# Altium integrated library Analog Devices Data Converters Digital-to-Analog Converters.IntLib: 2231 symbols (part 109 of 181)
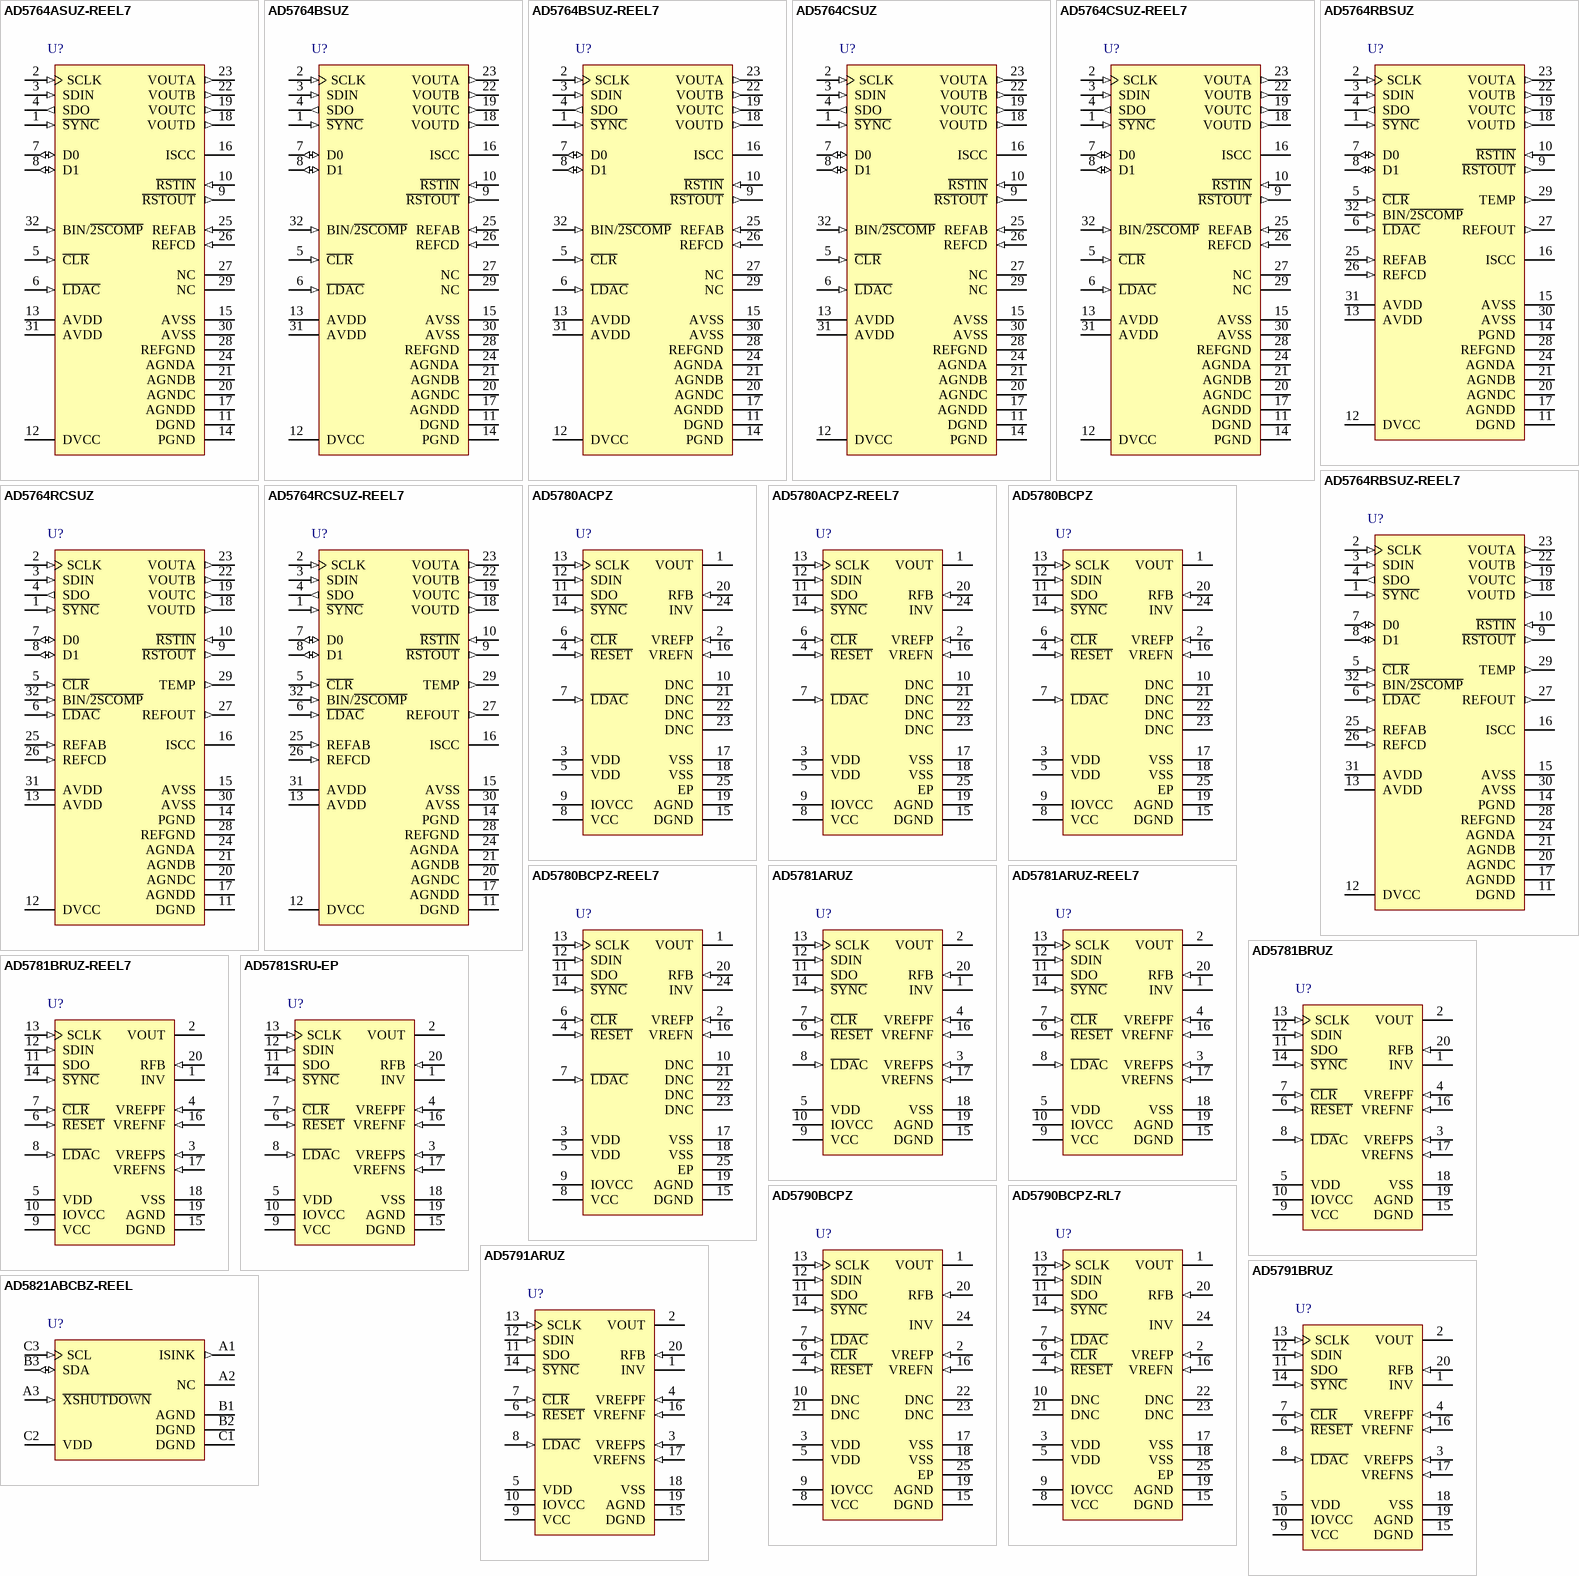
[diagram p222: symbols AD5764ASUZ-REEL7 to AD5821ABCBZ-REEL]

## AD5764ASUZ-REEL7
designator U?
Quad 16-Bit High Accuracy Bipolar Voltage Output Digital-to-Analog Converter with Serial Interface, -40 to +85 degC, SU-32-2, Pb-Free, Reel; Generic Part Number: AD5764; Manufacturer: Analog Devices; PartNumber: AD5764ASUZ-REEL7; # DAC Outputs: 4; Max V+: 16.5V; Op Pwr Diss: 381mW; Resolution (Bits): 16; Settling Time: 8µs; Single Supply: No; DatasheetVersion: Rev.F; PackageVersion: 2004; PackageReference: SU-32-2; PackageDescription: 32-Lead Thin Plastic Quad Flat Package [TQFP]; Supplier 1: Digi-Key; Supplier Part Number 1: AD5764ASUZ-REEL7-ND; Supplier 2: Mouser; Supplier Part Number 2: 584-AD5764ASUZ-R7; Packing: Reel; RoHS: Y; Mounting Technology: Surface Mount; Code_JEDEC: MS-026-ABA; ComponentLink1Description: Manufacturer URL; ComponentLink1URL: http://www.analog.com/en/index.html; ComponentLink2Description: Datasheet; ComponentLink2URL: http://www.analog.com/static/imported-files/data_sheets/AD5764.pdf; ComponentLink3Description: Package Specification; ComponentLink3URL: http://www.analog.com/static/imported-files/packages/6298531260360306615SU_32_2.pdf; ComponentLink4Description: Product URL; ComponentLink4URL: http://www.analog.com/en/digital-to-analog-converters/da-converters/ad5764/products/product.html; ComponentLink5Description: Reference Design URL; ComponentLink5URL: http://www.analog.com/en/digital-to-analog-converters/da-converters/ad5764/products/product.html#prod_cross_sell
footprint SU-32-2_N (Thin QFP, 32-Leads, Body 7x7mm, Pitch 0.8mm, IPC Medium Density)
footprint SU-32-2_L (Thin QFP, 32-Leads, Body 7x7mm, Pitch 0.8mm, IPC High Density)
footprint SU-32-2_M (Thin QFP, 32-Leads, Body 7x7mm, Pitch 0.8mm, IPC Low Density)
pins: 1 ~{SYNC} (in) "Active Low Input. This is the frame synchronization signal for the serial interface. While S\Y\N\C\ is low, data is transferred in on the falling edge of SCLK.", 2 SCLK (in) "Serial Clock Input. Data is clocked into the input shift register on the falling edge of SCLK. This operates at clock speeds up to 30 MHz.", 3 SDIN (in) "Serial Data Input. Data must be valid on the falling edge of SCLK", 4 SDO (out) "Serial Data Output. Used to clock data from the serial register in daisy-chain or readback mode.", 5 ~{CLR} (in) "Negative Edge Triggered Input. Asserting this pin sets the data register to 0x0000. There is an internal pull-up device on this logic input. Therefore, this pin can be left floating and defaults to a Logic 1 condition.", 6 ~{LDAC} (in) "Load DAC. Logic input. This is used to update the data register and consequently the analog outputs. When tied permanently low, the addressed data register is updated on the rising edge of S\Y\N\C\. If L\D\A\C\ is held high (See Datasheet)", 7 D0 (io) "Digital I/O Port. The user can set up these pins as inputs or outputs that are configurable and readable over the serial interface. When configured as inputs, these pins have weak internal pull-ups to DVCC. When programmed (See Datasheet)", 8 D1 (io) "Digital I/O Port. The user can set up these pins as inputs or outputs that are configurable and readable over the serial interface. When configured as inputs, these pins have weak internal pull-ups to DVCC. When programmed (See Datasheet)", 9 ~{RSTOUT} (out) "Reset Logic Output. This is the output from the on-chip voltage monitor used in the reset circuit. If desired, it can be used to control other system components.", 10 ~{RSTIN} (in) "Reset Logic Input. This input allows external access to the internal reset logic. Applying a Logic 0 to this input clamps the DAC outputs to 0 V. In normal operation, R\S\T\I\N\ should be tied to Logic 1. Register values (See Datasheet)", 11 DGND (power) "Digital Ground.", 12 DVCC (power) "Digital Supply. Voltage ranges from 2.7 V to 5.25 V.", 13 AVDD (power) "Positive Analog Supply. Voltage ranges from 11.4 V to 16.5 V.", 14 PGND (power) "Ground Reference Point for Analog Circuitry.", 15 AVSS (power) "Negative Analog Supply. Voltage ranges from -11.4 V to -16.5 V.", 16 ISCC "Resistor Connection for Pin Programmable Short-Circuit Current. This pin is used in association with an optional external resistor to AGND to program the short-circuit current of the output amplifiers. Refer to the Design (See Datasheet)", 17 AGNDD (power) "Ground Reference Pin for DAC D Output Amplifier.", 18 VOUTD (out) "Analog Output Voltage of DAC D. This pin is a buffered output with a nominal full-scale output range of + /- 10 V. The output amplifier is capable of directly driving a 10 kohm, 200 pF load.", 19 VOUTC (out) "Analog Output Voltage of DAC C. This pin is a buffered output with a nominal full-scale output range of + / -10 V. The output amplifier is capable of directly driving a 10 kohm, 200 pF load.", 20 AGNDC (power) "Ground Reference Pin for DAC C Output Amplifier.", 21 AGNDB (power) "Ground Reference Pin for DAC B Output Amplifier.", 22 VOUTB (out) "Analog Output Voltage of DAC B. Buffered output with a nominal full-scale output range of +/- 10 V. The output amplifier is capable of directly driving a 10 kohm, 200pF load.", 23 VOUTA (out) "Analog Output Voltage of DAC A. Buffered output with a nominal full-scale output range of +/- 10 V. The output amplifier is capable of directly driving a 10 kohm, 200pF load.", 24 AGNDA (power) "Ground Reference Pin for DAC A Output Amplifier.", 25 REFAB (in) "External Reference Voltage Input for Channel A and Channel B. Reference input range is 1 V to 7 V; programs the full-scale output voltage. VREFIN = 5 V for specified performance.", 26 REFCD (in) "External Reference Voltage Input for Channel C and Channel D. Reference input range is 1 V to 7 V; programs the full-scale output voltage. VREFIN= 5 V for specified performance.", 27 NC "No Connect", 28 REFGND (power) "Reference Ground Return for the Reference Generator and Buffers.", 29 NC "No Connect.", 30 AVSS (power) "Negative Analog Supply. Voltage ranges from -11.4 V to -16.5 V.", 31 AVDD (power) "Positive Analog Supply. Voltage ranges from 11.4 V to 16.5 V.", 32 BIN/~{2SCOMP} (in) "Determines the DAC Coding. This pin should be hardwired to either DVCC or DGND. When hardwired to DVCC, input coding is offset binary. When hardwired to DGND, input coding is tows complement(see table 7 and table 8)."

## AD5764BSUZ
designator U?
Quad 16-Bit High Accuracy Bipolar Voltage Output Digital-to-Analog Converter with Serial Interface, -40 to +85 degC, SU-32-2, Pb-Free, Tray; Generic Part Number: AD5764; Manufacturer: Analog Devices; PartNumber: AD5764BSUZ; # DAC Outputs: 4; Max V+: 16.5V; Op Pwr Diss: 381mW; Resolution (Bits): 16; Settling Time: 8µs; Single Supply: No; DatasheetVersion: Rev.F; PackageVersion: 2004; PackageReference: SU-32-2; PackageDescription: 32-Lead Thin Plastic Quad Flat Package [TQFP]; Supplier 1: Digi-Key; Supplier Part Number 1: AD5764BSUZ-ND; Supplier 2: Newark; Supplier Part Number 2: 28M4012; Supplier 3: Mouser; Supplier Part Number 3: 584-AD5764BSUZ; Packing: Tray; RoHS: Y; Mounting Technology: Surface Mount; Code_JEDEC: MS-026-ABA; ComponentLink1Description: Manufacturer URL; ComponentLink1URL: http://www.analog.com/en/index.html; ComponentLink2Description: Datasheet; ComponentLink2URL: http://www.analog.com/static/imported-files/data_sheets/AD5764.pdf; ComponentLink3Description: Package Specification; ComponentLink3URL: http://www.analog.com/static/imported-files/packages/6298531260360306615SU_32_2.pdf; ComponentLink4Description: Product URL; ComponentLink4URL: http://www.analog.com/en/digital-to-analog-converters/da-converters/ad5764/products/product.html; ComponentLink5Description: Reference Design URL; ComponentLink5URL: http://www.analog.com/en/digital-to-analog-converters/da-converters/ad5764/products/product.html#prod_cross_sell
footprint SU-32-2_N (Thin QFP, 32-Leads, Body 7x7mm, Pitch 0.8mm, IPC Medium Density)
footprint SU-32-2_L (Thin QFP, 32-Leads, Body 7x7mm, Pitch 0.8mm, IPC High Density)
footprint SU-32-2_M (Thin QFP, 32-Leads, Body 7x7mm, Pitch 0.8mm, IPC Low Density)
pins: 1 ~{SYNC} (in) "Active Low Input. This is the frame synchronization signal for the serial interface. While S\Y\N\C\ is low, data is transferred in on the falling edge of SCLK.", 2 SCLK (in) "Serial Clock Input. Data is clocked into the input shift register on the falling edge of SCLK. This operates at clock speeds up to 30 MHz.", 3 SDIN (in) "Serial Data Input. Data must be valid on the falling edge of SCLK", 4 SDO (out) "Serial Data Output. Used to clock data from the serial register in daisy-chain or readback mode.", 5 ~{CLR} (in) "Negative Edge Triggered Input. Asserting this pin sets the data register to 0x0000. There is an internal pull-up device on this logic input. Therefore, this pin can be left floating and defaults to a Logic 1 condition.", 6 ~{LDAC} (in) "Load DAC. Logic input. This is used to update the data register and consequently the analog outputs. When tied permanently low, the addressed data register is updated on the rising edge of S\Y\N\C\. If L\D\A\C\ is held high (See Datasheet)", 7 D0 (io) "Digital I/O Port. The user can set up these pins as inputs or outputs that are configurable and readable over the serial interface. When configured as inputs, these pins have weak internal pull-ups to DVCC. When programmed (See Datasheet)", 8 D1 (io) "Digital I/O Port. The user can set up these pins as inputs or outputs that are configurable and readable over the serial interface. When configured as inputs, these pins have weak internal pull-ups to DVCC. When programmed (See Datasheet)", 9 ~{RSTOUT} (out) "Reset Logic Output. This is the output from the on-chip voltage monitor used in the reset circuit. If desired, it can be used to control other system components.", 10 ~{RSTIN} (in) "Reset Logic Input. This input allows external access to the internal reset logic. Applying a Logic 0 to this input clamps the DAC outputs to 0 V. In normal operation, R\S\T\I\N\ should be tied to Logic 1. Register values (See Datasheet)", 11 DGND (power) "Digital Ground.", 12 DVCC (power) "Digital Supply. Voltage ranges from 2.7 V to 5.25 V.", 13 AVDD (power) "Positive Analog Supply. Voltage ranges from 11.4 V to 16.5 V.", 14 PGND (power) "Ground Reference Point for Analog Circuitry.", 15 AVSS (power) "Negative Analog Supply. Voltage ranges from -11.4 V to -16.5 V.", 16 ISCC "Resistor Connection for Pin Programmable Short-Circuit Current. This pin is used in association with an optional external resistor to AGND to program the short-circuit current of the output amplifiers. Refer to the Design (See Datasheet)", 17 AGNDD (power) "Ground Reference Pin for DAC D Output Amplifier.", 18 VOUTD (out) "Analog Output Voltage of DAC D. This pin is a buffered output with a nominal full-scale output range of + /- 10 V. The output amplifier is capable of directly driving a 10 kohm, 200 pF load.", 19 VOUTC (out) "Analog Output Voltage of DAC C. This pin is a buffered output with a nominal full-scale output range of + / -10 V. The output amplifier is capable of directly driving a 10 kohm, 200 pF load.", 20 AGNDC (power) "Ground Reference Pin for DAC C Output Amplifier.", 21 AGNDB (power) "Ground Reference Pin for DAC B Output Amplifier.", 22 VOUTB (out) "Analog Output Voltage of DAC B. Buffered output with a nominal full-scale output range of +/- 10 V. The output amplifier is capable of directly driving a 10 kohm, 200pF load.", 23 VOUTA (out) "Analog Output Voltage of DAC A. Buffered output with a nominal full-scale output range of +/- 10 V. The output amplifier is capable of directly driving a 10 kohm, 200pF load.", 24 AGNDA (power) "Ground Reference Pin for DAC A Output Amplifier.", 25 REFAB (in) "External Reference Voltage Input for Channel A and Channel B. Reference input range is 1 V to 7 V; programs the full-scale output voltage. VREFIN = 5 V for specified performance.", 26 REFCD (in) "External Reference Voltage Input for Channel C and Channel D. Reference input range is 1 V to 7 V; programs the full-scale output voltage. VREFIN= 5 V for specified performance.", 27 NC "No Connect", 28 REFGND (power) "Reference Ground Return for the Reference Generator and Buffers.", 29 NC "No Connect.", 30 AVSS (power) "Negative Analog Supply. Voltage ranges from -11.4 V to -16.5 V.", 31 AVDD (power) "Positive Analog Supply. Voltage ranges from 11.4 V to 16.5 V.", 32 BIN/~{2SCOMP} (in) "Determines the DAC Coding. This pin should be hardwired to either DVCC or DGND. When hardwired to DVCC, input coding is offset binary. When hardwired to DGND, input coding is tows complement(see table 7 and table 8)."

## AD5764BSUZ-REEL7
designator U?
Quad 16-Bit High Accuracy Bipolar Voltage Output Digital-to-Analog Converter with Serial Interface, -40 to +85 degC, SU-32-2, Pb-Free, Reel; Generic Part Number: AD5764; Manufacturer: Analog Devices; PartNumber: AD5764BSUZ-REEL7; # DAC Outputs: 4; Max V+: 16.5V; Op Pwr Diss: 381mW; Resolution (Bits): 16; Settling Time: 8µs; Single Supply: No; DatasheetVersion: Rev.F; PackageVersion: 2004; PackageReference: SU-32-2; PackageDescription: 32-Lead Thin Plastic Quad Flat Package [TQFP]; Supplier 1: Digi-Key; Supplier Part Number 1: AD5764BSUZ-REEL7-ND; Supplier 2: Mouser; Supplier Part Number 2: 584-AD5764BSUZ-R7; Packing: Reel; RoHS: Y; Mounting Technology: Surface Mount; Code_JEDEC: MS-026-ABA; ComponentLink1Description: Manufacturer URL; ComponentLink1URL: http://www.analog.com/en/index.html; ComponentLink2Description: Datasheet; ComponentLink2URL: http://www.analog.com/static/imported-files/data_sheets/AD5764.pdf; ComponentLink3Description: Package Specification; ComponentLink3URL: http://www.analog.com/static/imported-files/packages/6298531260360306615SU_32_2.pdf; ComponentLink4Description: Product URL; ComponentLink4URL: http://www.analog.com/en/digital-to-analog-converters/da-converters/ad5764/products/product.html; ComponentLink5Description: Reference Design URL; ComponentLink5URL: http://www.analog.com/en/digital-to-analog-converters/da-converters/ad5764/products/product.html#prod_cross_sell
footprint SU-32-2_N (Thin QFP, 32-Leads, Body 7x7mm, Pitch 0.8mm, IPC Medium Density)
footprint SU-32-2_L (Thin QFP, 32-Leads, Body 7x7mm, Pitch 0.8mm, IPC High Density)
footprint SU-32-2_M (Thin QFP, 32-Leads, Body 7x7mm, Pitch 0.8mm, IPC Low Density)
pins: 1 ~{SYNC} (in) "Active Low Input. This is the frame synchronization signal for the serial interface. While S\Y\N\C\ is low, data is transferred in on the falling edge of SCLK.", 2 SCLK (in) "Serial Clock Input. Data is clocked into the input shift register on the falling edge of SCLK. This operates at clock speeds up to 30 MHz.", 3 SDIN (in) "Serial Data Input. Data must be valid on the falling edge of SCLK", 4 SDO (out) "Serial Data Output. Used to clock data from the serial register in daisy-chain or readback mode.", 5 ~{CLR} (in) "Negative Edge Triggered Input. Asserting this pin sets the data register to 0x0000. There is an internal pull-up device on this logic input. Therefore, this pin can be left floating and defaults to a Logic 1 condition.", 6 ~{LDAC} (in) "Load DAC. Logic input. This is used to update the data register and consequently the analog outputs. When tied permanently low, the addressed data register is updated on the rising edge of S\Y\N\C\. If L\D\A\C\ is held high (See Datasheet)", 7 D0 (io) "Digital I/O Port. The user can set up these pins as inputs or outputs that are configurable and readable over the serial interface. When configured as inputs, these pins have weak internal pull-ups to DVCC. When programmed (See Datasheet)", 8 D1 (io) "Digital I/O Port. The user can set up these pins as inputs or outputs that are configurable and readable over the serial interface. When configured as inputs, these pins have weak internal pull-ups to DVCC. When programmed (See Datasheet)", 9 ~{RSTOUT} (out) "Reset Logic Output. This is the output from the on-chip voltage monitor used in the reset circuit. If desired, it can be used to control other system components.", 10 ~{RSTIN} (in) "Reset Logic Input. This input allows external access to the internal reset logic. Applying a Logic 0 to this input clamps the DAC outputs to 0 V. In normal operation, R\S\T\I\N\ should be tied to Logic 1. Register values (See Datasheet)", 11 DGND (power) "Digital Ground.", 12 DVCC (power) "Digital Supply. Voltage ranges from 2.7 V to 5.25 V.", 13 AVDD (power) "Positive Analog Supply. Voltage ranges from 11.4 V to 16.5 V.", 14 PGND (power) "Ground Reference Point for Analog Circuitry.", 15 AVSS (power) "Negative Analog Supply. Voltage ranges from -11.4 V to -16.5 V.", 16 ISCC "Resistor Connection for Pin Programmable Short-Circuit Current. This pin is used in association with an optional external resistor to AGND to program the short-circuit current of the output amplifiers. Refer to the Design (See Datasheet)", 17 AGNDD (power) "Ground Reference Pin for DAC D Output Amplifier.", 18 VOUTD (out) "Analog Output Voltage of DAC D. This pin is a buffered output with a nominal full-scale output range of + /- 10 V. The output amplifier is capable of directly driving a 10 kohm, 200 pF load.", 19 VOUTC (out) "Analog Output Voltage of DAC C. This pin is a buffered output with a nominal full-scale output range of + / -10 V. The output amplifier is capable of directly driving a 10 kohm, 200 pF load.", 20 AGNDC (power) "Ground Reference Pin for DAC C Output Amplifier.", 21 AGNDB (power) "Ground Reference Pin for DAC B Output Amplifier.", 22 VOUTB (out) "Analog Output Voltage of DAC B. Buffered output with a nominal full-scale output range of +/- 10 V. The output amplifier is capable of directly driving a 10 kohm, 200pF load.", 23 VOUTA (out) "Analog Output Voltage of DAC A. Buffered output with a nominal full-scale output range of +/- 10 V. The output amplifier is capable of directly driving a 10 kohm, 200pF load.", 24 AGNDA (power) "Ground Reference Pin for DAC A Output Amplifier.", 25 REFAB (in) "External Reference Voltage Input for Channel A and Channel B. Reference input range is 1 V to 7 V; programs the full-scale output voltage. VREFIN = 5 V for specified performance.", 26 REFCD (in) "External Reference Voltage Input for Channel C and Channel D. Reference input range is 1 V to 7 V; programs the full-scale output voltage. VREFIN= 5 V for specified performance.", 27 NC "No Connect", 28 REFGND (power) "Reference Ground Return for the Reference Generator and Buffers.", 29 NC "No Connect.", 30 AVSS (power) "Negative Analog Supply. Voltage ranges from -11.4 V to -16.5 V.", 31 AVDD (power) "Positive Analog Supply. Voltage ranges from 11.4 V to 16.5 V.", 32 BIN/~{2SCOMP} (in) "Determines the DAC Coding. This pin should be hardwired to either DVCC or DGND. When hardwired to DVCC, input coding is offset binary. When hardwired to DGND, input coding is tows complement(see table 7 and table 8)."

## AD5764CSUZ
designator U?
Quad 16-Bit High Accuracy Bipolar Voltage Output Digital-to-Analog Converter with Serial Interface, -40 to +85 degC, SU-32-2, Pb-Free, Tray; Generic Part Number: AD5764; Manufacturer: Analog Devices; PartNumber: AD5764CSUZ; # DAC Outputs: 4; Max V+: 16.5V; Op Pwr Diss: 381mW; Resolution (Bits): 16; Settling Time: 8µs; Single Supply: No; DatasheetVersion: Rev.F; PackageVersion: 2004; PackageReference: SU-32-2; PackageDescription: 32-Lead Thin Plastic Quad Flat Package [TQFP]; Supplier 1: Digi-Key; Supplier Part Number 1: AD5764CSUZ-ND; Supplier 2: Farnell; Supplier Part Number 2: 1274253; Supplier 3: Newark; Supplier Part Number 3: 19M1187; Supplier 4: Mouser; Supplier Part Number 4: 584-AD5764CSUZ; Packing: Tray; RoHS: Y; Mounting Technology: Surface Mount; Code_JEDEC: MS-026-ABA; ComponentLink1Description: Manufacturer URL; ComponentLink1URL: http://www.analog.com/en/index.html; ComponentLink2Description: Datasheet; ComponentLink2URL: http://www.analog.com/static/imported-files/data_sheets/AD5764.pdf; ComponentLink3Description: Package Specification; ComponentLink3URL: http://www.analog.com/static/imported-files/packages/6298531260360306615SU_32_2.pdf; ComponentLink4Description: Product URL; ComponentLink4URL: http://www.analog.com/en/digital-to-analog-converters/da-converters/ad5764/products/product.html; ComponentLink5Description: Reference Design URL; ComponentLink5URL: http://www.analog.com/en/digital-to-analog-converters/da-converters/ad5764/products/product.html#prod_cross_sell
footprint SU-32-2_N (Thin QFP, 32-Leads, Body 7x7mm, Pitch 0.8mm, IPC Medium Density)
footprint SU-32-2_L (Thin QFP, 32-Leads, Body 7x7mm, Pitch 0.8mm, IPC High Density)
footprint SU-32-2_M (Thin QFP, 32-Leads, Body 7x7mm, Pitch 0.8mm, IPC Low Density)
pins: 1 ~{SYNC} (in) "Active Low Input. This is the frame synchronization signal for the serial interface. While S\Y\N\C\ is low, data is transferred in on the falling edge of SCLK.", 2 SCLK (in) "Serial Clock Input. Data is clocked into the input shift register on the falling edge of SCLK. This operates at clock speeds up to 30 MHz.", 3 SDIN (in) "Serial Data Input. Data must be valid on the falling edge of SCLK", 4 SDO (out) "Serial Data Output. Used to clock data from the serial register in daisy-chain or readback mode.", 5 ~{CLR} (in) "Negative Edge Triggered Input. Asserting this pin sets the data register to 0x0000. There is an internal pull-up device on this logic input. Therefore, this pin can be left floating and defaults to a Logic 1 condition.", 6 ~{LDAC} (in) "Load DAC. Logic input. This is used to update the data register and consequently the analog outputs. When tied permanently low, the addressed data register is updated on the rising edge of S\Y\N\C\. If L\D\A\C\ is held high (See Datasheet)", 7 D0 (io) "Digital I/O Port. The user can set up these pins as inputs or outputs that are configurable and readable over the serial interface. When configured as inputs, these pins have weak internal pull-ups to DVCC. When programmed (See Datasheet)", 8 D1 (io) "Digital I/O Port. The user can set up these pins as inputs or outputs that are configurable and readable over the serial interface. When configured as inputs, these pins have weak internal pull-ups to DVCC. When programmed (See Datasheet)", 9 ~{RSTOUT} (out) "Reset Logic Output. This is the output from the on-chip voltage monitor used in the reset circuit. If desired, it can be used to control other system components.", 10 ~{RSTIN} (in) "Reset Logic Input. This input allows external access to the internal reset logic. Applying a Logic 0 to this input clamps the DAC outputs to 0 V. In normal operation, R\S\T\I\N\ should be tied to Logic 1. Register values (See Datasheet)", 11 DGND (power) "Digital Ground.", 12 DVCC (power) "Digital Supply. Voltage ranges from 2.7 V to 5.25 V.", 13 AVDD (power) "Positive Analog Supply. Voltage ranges from 11.4 V to 16.5 V.", 14 PGND (power) "Ground Reference Point for Analog Circuitry.", 15 AVSS (power) "Negative Analog Supply. Voltage ranges from -11.4 V to -16.5 V.", 16 ISCC "Resistor Connection for Pin Programmable Short-Circuit Current. This pin is used in association with an optional external resistor to AGND to program the short-circuit current of the output amplifiers. Refer to the Design (See Datasheet)", 17 AGNDD (power) "Ground Reference Pin for DAC D Output Amplifier.", 18 VOUTD (out) "Analog Output Voltage of DAC D. This pin is a buffered output with a nominal full-scale output range of + /- 10 V. The output amplifier is capable of directly driving a 10 kohm, 200 pF load.", 19 VOUTC (out) "Analog Output Voltage of DAC C. This pin is a buffered output with a nominal full-scale output range of + / -10 V. The output amplifier is capable of directly driving a 10 kohm, 200 pF load.", 20 AGNDC (power) "Ground Reference Pin for DAC C Output Amplifier.", 21 AGNDB (power) "Ground Reference Pin for DAC B Output Amplifier.", 22 VOUTB (out) "Analog Output Voltage of DAC B. Buffered output with a nominal full-scale output range of +/- 10 V. The output amplifier is capable of directly driving a 10 kohm, 200pF load.", 23 VOUTA (out) "Analog Output Voltage of DAC A. Buffered output with a nominal full-scale output range of +/- 10 V. The output amplifier is capable of directly driving a 10 kohm, 200pF load.", 24 AGNDA (power) "Ground Reference Pin for DAC A Output Amplifier.", 25 REFAB (in) "External Reference Voltage Input for Channel A and Channel B. Reference input range is 1 V to 7 V; programs the full-scale output voltage. VREFIN = 5 V for specified performance.", 26 REFCD (in) "External Reference Voltage Input for Channel C and Channel D. Reference input range is 1 V to 7 V; programs the full-scale output voltage. VREFIN= 5 V for specified performance.", 27 NC "No Connect", 28 REFGND (power) "Reference Ground Return for the Reference Generator and Buffers.", 29 NC "No Connect.", 30 AVSS (power) "Negative Analog Supply. Voltage ranges from -11.4 V to -16.5 V.", 31 AVDD (power) "Positive Analog Supply. Voltage ranges from 11.4 V to 16.5 V.", 32 BIN/~{2SCOMP} (in) "Determines the DAC Coding. This pin should be hardwired to either DVCC or DGND. When hardwired to DVCC, input coding is offset binary. When hardwired to DGND, input coding is tows complement(see table 7 and table 8)."

## AD5764CSUZ-REEL7
designator U?
Quad 16-Bit High Accuracy Bipolar Voltage Output Digital-to-Analog Converter with Serial Interface, -40 to +85 degC, SU-32-2, Pb-Free, Reel; Generic Part Number: AD5764; Manufacturer: Analog Devices; PartNumber: AD5764CSUZ-REEL7; # DAC Outputs: 4; Max V+: 16.5V; Op Pwr Diss: 381mW; Resolution (Bits): 16; Settling Time: 8µs; Single Supply: No; DatasheetVersion: Rev.F; PackageVersion: 2004; PackageReference: SU-32-2; PackageDescription: 32-Lead Thin Plastic Quad Flat Package [TQFP]; Supplier 1: Digi-Key; Supplier Part Number 1: AD5764CSUZ-REEL7-ND; Supplier 2: Mouser; Supplier Part Number 2: 584-AD5764CSUZ-R7; Packing: Reel; RoHS: Y; Mounting Technology: Surface Mount; Code_JEDEC: MS-026-ABA; ComponentLink1Description: Manufacturer URL; ComponentLink1URL: http://www.analog.com/en/index.html; ComponentLink2Description: Datasheet; ComponentLink2URL: http://www.analog.com/static/imported-files/data_sheets/AD5764.pdf; ComponentLink3Description: Package Specification; ComponentLink3URL: http://www.analog.com/static/imported-files/packages/6298531260360306615SU_32_2.pdf; ComponentLink4Description: Product URL; ComponentLink4URL: http://www.analog.com/en/digital-to-analog-converters/da-converters/ad5764/products/product.html; ComponentLink5Description: Reference Design URL; ComponentLink5URL: http://www.analog.com/en/digital-to-analog-converters/da-converters/ad5764/products/product.html#prod_cross_sell
footprint SU-32-2_N (Thin QFP, 32-Leads, Body 7x7mm, Pitch 0.8mm, IPC Medium Density)
footprint SU-32-2_L (Thin QFP, 32-Leads, Body 7x7mm, Pitch 0.8mm, IPC High Density)
footprint SU-32-2_M (Thin QFP, 32-Leads, Body 7x7mm, Pitch 0.8mm, IPC Low Density)
pins: 1 ~{SYNC} (in) "Active Low Input. This is the frame synchronization signal for the serial interface. While S\Y\N\C\ is low, data is transferred in on the falling edge of SCLK.", 2 SCLK (in) "Serial Clock Input. Data is clocked into the input shift register on the falling edge of SCLK. This operates at clock speeds up to 30 MHz.", 3 SDIN (in) "Serial Data Input. Data must be valid on the falling edge of SCLK", 4 SDO (out) "Serial Data Output. Used to clock data from the serial register in daisy-chain or readback mode.", 5 ~{CLR} (in) "Negative Edge Triggered Input. Asserting this pin sets the data register to 0x0000. There is an internal pull-up device on this logic input. Therefore, this pin can be left floating and defaults to a Logic 1 condition.", 6 ~{LDAC} (in) "Load DAC. Logic input. This is used to update the data register and consequently the analog outputs. When tied permanently low, the addressed data register is updated on the rising edge of S\Y\N\C\. If L\D\A\C\ is held high (See Datasheet)", 7 D0 (io) "Digital I/O Port. The user can set up these pins as inputs or outputs that are configurable and readable over the serial interface. When configured as inputs, these pins have weak internal pull-ups to DVCC. When programmed (See Datasheet)", 8 D1 (io) "Digital I/O Port. The user can set up these pins as inputs or outputs that are configurable and readable over the serial interface. When configured as inputs, these pins have weak internal pull-ups to DVCC. When programmed (See Datasheet)", 9 ~{RSTOUT} (out) "Reset Logic Output. This is the output from the on-chip voltage monitor used in the reset circuit. If desired, it can be used to control other system components.", 10 ~{RSTIN} (in) "Reset Logic Input. This input allows external access to the internal reset logic. Applying a Logic 0 to this input clamps the DAC outputs to 0 V. In normal operation, R\S\T\I\N\ should be tied to Logic 1. Register values (See Datasheet)", 11 DGND (power) "Digital Ground.", 12 DVCC (power) "Digital Supply. Voltage ranges from 2.7 V to 5.25 V.", 13 AVDD (power) "Positive Analog Supply. Voltage ranges from 11.4 V to 16.5 V.", 14 PGND (power) "Ground Reference Point for Analog Circuitry.", 15 AVSS (power) "Negative Analog Supply. Voltage ranges from -11.4 V to -16.5 V.", 16 ISCC "Resistor Connection for Pin Programmable Short-Circuit Current. This pin is used in association with an optional external resistor to AGND to program the short-circuit current of the output amplifiers. Refer to the Design (See Datasheet)", 17 AGNDD (power) "Ground Reference Pin for DAC D Output Amplifier.", 18 VOUTD (out) "Analog Output Voltage of DAC D. This pin is a buffered output with a nominal full-scale output range of + /- 10 V. The output amplifier is capable of directly driving a 10 kohm, 200 pF load.", 19 VOUTC (out) "Analog Output Voltage of DAC C. This pin is a buffered output with a nominal full-scale output range of + / -10 V. The output amplifier is capable of directly driving a 10 kohm, 200 pF load.", 20 AGNDC (power) "Ground Reference Pin for DAC C Output Amplifier.", 21 AGNDB (power) "Ground Reference Pin for DAC B Output Amplifier.", 22 VOUTB (out) "Analog Output Voltage of DAC B. Buffered output with a nominal full-scale output range of +/- 10 V. The output amplifier is capable of directly driving a 10 kohm, 200pF load.", 23 VOUTA (out) "Analog Output Voltage of DAC A. Buffered output with a nominal full-scale output range of +/- 10 V. The output amplifier is capable of directly driving a 10 kohm, 200pF load.", 24 AGNDA (power) "Ground Reference Pin for DAC A Output Amplifier.", 25 REFAB (in) "External Reference Voltage Input for Channel A and Channel B. Reference input range is 1 V to 7 V; programs the full-scale output voltage. VREFIN = 5 V for specified performance.", 26 REFCD (in) "External Reference Voltage Input for Channel C and Channel D. Reference input range is 1 V to 7 V; programs the full-scale output voltage. VREFIN= 5 V for specified performance.", 27 NC "No Connect", 28 REFGND (power) "Reference Ground Return for the Reference Generator and Buffers.", 29 NC "No Connect.", 30 AVSS (power) "Negative Analog Supply. Voltage ranges from -11.4 V to -16.5 V.", 31 AVDD (power) "Positive Analog Supply. Voltage ranges from 11.4 V to 16.5 V.", 32 BIN/~{2SCOMP} (in) "Determines the DAC Coding. This pin should be hardwired to either DVCC or DGND. When hardwired to DVCC, input coding is offset binary. When hardwired to DGND, input coding is tows complement(see table 7 and table 8)."

## AD5764RBSUZ
designator U?
16-Bit Bipolar Voltage Output Digital-to-Analog Converter with Serial Interface, -40 to +85 degC, SU-32-2, Pb-Free, Tray; Generic Part Number: AD5764R; Manufacturer: Analog Devices; PartNumber: AD5764RBSUZ; # DAC Outputs: 4; Max V+: 16.5V; Op Pwr Diss: 275mW; Resolution (Bits): 16; Settling Time: 8µs; Single Supply: No; DatasheetVersion: Rev.D; PackageVersion: 2004; PackageReference: SU-32-2; PackageDescription: 32-Lead Thin Plastic Quad Flat Package [TQFP]; Supplier 1: Digi-Key; Supplier Part Number 1: AD5764RBSUZ-ND; Supplier 2: Farnell; Supplier Part Number 2: 2192222; Supplier 3: Newark; Supplier Part Number 3: 34P3176; Supplier 4: Mouser; Supplier Part Number 4: 584-AD5764RBSUZ; Packing: Tray; RoHS: Y; Mounting Technology: Surface Mount; Code_JEDEC: MS-026-ABA; ComponentLink1Description: Manufacturer URL; ComponentLink1URL: http://www.analog.com/en/index.html; ComponentLink2Description: Datasheet; ComponentLink2URL: http://www.analog.com/static/imported-files/data_sheets/AD5764R.pdf; ComponentLink3Description: Package Specification; ComponentLink3URL: http://www.analog.com/static/imported-files/packages/6298531260360306615SU_32_2.pdf; ComponentLink4Description: Product URL; ComponentLink4URL: http://www.analog.com/en/digital-to-analog-converters/da-converters/ad5764r/products/product.html
footprint SU-32-2_N (Thin QFP, 32-Leads, Body 7x7mm, Pitch 0.8mm, IPC Medium Density)
footprint SU-32-2_L (Thin QFP, 32-Leads, Body 7x7mm, Pitch 0.8mm, IPC High Density)
footprint SU-32-2_M (Thin QFP, 32-Leads, Body 7x7mm, Pitch 0.8mm, IPC Low Density)
pins: 1 ~{SYNC} (in) "Active Low Input. This is the frame synchronization signal for the serial interface. While S\Y\N\C\ is low, data is transferred in on the falling edge of SCLK.", 2 SCLK (in) "Serial Clock Input. Data is clocked into the input shift register on the falling edge of SCLK. This operates at clock speeds of up to 30 MHz.", 3 SDIN (in) "Serial Data Input. Data must be valid on the falling edge of SCLK.", 4 SDO (out) "Serial Data Output. This pin is used to clock data from the serial register in daisy-chain or readback mode.", 5 ~{CLR} (in) "Negative Edge Triggered Input.1 Asserting this pin sets the data registers to 0x0000.", 6 ~{LDAC} (in) "Load DAC. This logic input is used to update the data registers and, consequently, the analog outputs. When tied permanently low, the addressed data register is updated on the rising edge of S\Y\N\C\. If L\D\A\C\ is held (See Datasheet)", 7 D0 (io) "Digital I/O Port. D0 form a digital I/O port. The user can set up these pins as inputs or outputs that are configurable and readable over the serial interface. When configured as inputs, these pins have weak internal (See Datasheet)", 8 D1 (io) "Digital I/O Port. D1 form a digital I/O port. The user can set up these pins as inputs or outputs that are configurable and readable over the serial interface. When configured as inputs, these pins have weak internal (See Datasheet)", 9 ~{RSTOUT} (out) "Reset Logic Output. This is the output from the on-chip voltage monitor used in the reset circuit. If desired, it can be used to control other system components.", 10 ~{RSTIN} (in) "Reset Logic Input. This input allows external access to the internal reset logic. Applying a Logic 0 to this input clamps the DAC outputs to 0 V. In normal operation, R\S\T\I\N\ should be tied to Logic 1. Register values (See Datasheet)", 11 DGND (power) "Digital Ground Pin.", 12 DVCC (power) "Digital Supply Pin. Voltage ranges from 2.7 V to 5.25 V.", 13 AVDD (power) "Positive Analog Supply Pins. Voltage ranges from 11.4 V to 16.5 V.", 14 PGND (power) "Ground Reference Point for Analog Circuitry.", 15 AVSS (power) "Negative Analog Supply Pins. Voltage ranges from -11.4 V to -16.5 V.", 16 ISCC "This pin is used in association with an optional external resistor to AGND to program the short-circuit current of the output amplifiers. Refer to the Design Features section for more information.", 17 AGNDD (power) "Ground Reference Pin for DAC D Output Amplifier.", 18 VOUTD (out) "Analog Output Voltage of DAC D. Buffered output with a nominal full-scale output range of +/-10 V. The output amplifier is capable of directly driving a 10 kohm, 200 pF load.", 19 VOUTC (out) "Analog Output Voltage of DAC C. Buffered output with a nominal full-scale output range of +/-10 V. The output amplifier is capable of directly driving a 10 kohm, 200 pF load.", 20 AGNDC (power) "Ground Reference Pin for DAC C Output Amplifier.", 21 AGNDB (power) "Ground Reference Pin for DAC B Output Amplifier.", 22 VOUTB (out) "Analog Output Voltage of DAC B. Buffered output with a nominal full-scale output range of +/-10 V. The output amplifier is capable of directly driving a 10 kohm, 200 pF load.", 23 VOUTA (out) "Analog Output Voltage of DAC A. Buffered output with a nominal full-scale output range of +/-10 V. The output amplifier is capable of directly driving a 10 kohm, 200 pF load.", 24 AGNDA (power) "Ground Reference Pin for DAC A Output Amplifier.", 25 REFAB (in) "External Reference Voltage Input for Channel A and Channel B. The reference input range is 1 V to 7 V, and it programs the full-scale output voltage. VREFIN = 5 V for specified performance.", 26 REFCD (in) "External Reference Voltage Input for Channel C and Channel D. The reference input range is 1 V to 7 V, and it programs the full-scale output voltage. VREFIN = 5 V for specified performance.", 27 REFOUT (out) "Reference Output. This is the reference output from the internal voltage reference. The internal reference is 5 V +/- 3 mV at 25 degC, with a reference temperature coefficient of 10 ppm/degC.", 28 REFGND (power) "Reference Ground Return for the Reference Generator and Buffers.", 29 TEMP (out) "This pin provides an output voltage proportional to temperature. The output voltage is 1.47 V typical at 25 degC die temperature; variation with temperature is 5 mV/degC.", 30 AVSS (power) "Negative Analog Supply Pins. Voltage ranges from -11.4 V to -16.5 V.", 31 AVDD (power) "Positive Analog Supply Pins. Voltage ranges from 11.4 V to 16.5 V.", 32 BIN/~{2SCOMP} (in) "This pin determines the DAC coding. This pin should be hardwired to either DVCC or DGND. When hardwired to DVCC, input coding is offset binary (see Table 7). When hardwired to DGND, input coding is twos complement (see Table (See Datasheet)"

## AD5764RBSUZ-REEL7
designator U?
16-Bit Bipolar Voltage Output Digital-to-Analog Converter with Serial Interface, -40 to +85 degC, SU-32-2, Pb-Free, Reel; Generic Part Number: AD5764R; Manufacturer: Analog Devices; PartNumber: AD5764RBSUZ-REEL7; # DAC Outputs: 4; Max V+: 16.5V; Op Pwr Diss: 275mW; Resolution (Bits): 16; Settling Time: 8µs; Single Supply: No; DatasheetVersion: Rev.D; PackageVersion: 2004; PackageReference: SU-32-2; PackageDescription: 32-Lead Thin Plastic Quad Flat Package [TQFP]; Supplier 1: Digi-Key; Supplier Part Number 1: AD5764RBSUZ-REEL7-ND; Supplier 2: Mouser; Supplier Part Number 2: 584-AD5764RBSUZ-R7; Packing: Reel; RoHS: Y; Mounting Technology: Surface Mount; Code_JEDEC: MS-026-ABA; ComponentLink1Description: Manufacturer URL; ComponentLink1URL: http://www.analog.com/en/index.html; ComponentLink2Description: Datasheet; ComponentLink2URL: http://www.analog.com/static/imported-files/data_sheets/AD5764R.pdf; ComponentLink3Description: Package Specification; ComponentLink3URL: http://www.analog.com/static/imported-files/packages/6298531260360306615SU_32_2.pdf; ComponentLink4Description: Product URL; ComponentLink4URL: http://www.analog.com/en/digital-to-analog-converters/da-converters/ad5764r/products/product.html
footprint SU-32-2_N (Thin QFP, 32-Leads, Body 7x7mm, Pitch 0.8mm, IPC Medium Density)
footprint SU-32-2_L (Thin QFP, 32-Leads, Body 7x7mm, Pitch 0.8mm, IPC High Density)
footprint SU-32-2_M (Thin QFP, 32-Leads, Body 7x7mm, Pitch 0.8mm, IPC Low Density)
pins: 1 ~{SYNC} (in) "Active Low Input. This is the frame synchronization signal for the serial interface. While S\Y\N\C\ is low, data is transferred in on the falling edge of SCLK.", 2 SCLK (in) "Serial Clock Input. Data is clocked into the input shift register on the falling edge of SCLK. This operates at clock speeds of up to 30 MHz.", 3 SDIN (in) "Serial Data Input. Data must be valid on the falling edge of SCLK.", 4 SDO (out) "Serial Data Output. This pin is used to clock data from the serial register in daisy-chain or readback mode.", 5 ~{CLR} (in) "Negative Edge Triggered Input.1 Asserting this pin sets the data registers to 0x0000.", 6 ~{LDAC} (in) "Load DAC. This logic input is used to update the data registers and, consequently, the analog outputs. When tied permanently low, the addressed data register is updated on the rising edge of S\Y\N\C\. If L\D\A\C\ is held (See Datasheet)", 7 D0 (io) "Digital I/O Port. D0 form a digital I/O port. The user can set up these pins as inputs or outputs that are configurable and readable over the serial interface. When configured as inputs, these pins have weak internal (See Datasheet)", 8 D1 (io) "Digital I/O Port. D1 form a digital I/O port. The user can set up these pins as inputs or outputs that are configurable and readable over the serial interface. When configured as inputs, these pins have weak internal (See Datasheet)", 9 ~{RSTOUT} (out) "Reset Logic Output. This is the output from the on-chip voltage monitor used in the reset circuit. If desired, it can be used to control other system components.", 10 ~{RSTIN} (in) "Reset Logic Input. This input allows external access to the internal reset logic. Applying a Logic 0 to this input clamps the DAC outputs to 0 V. In normal operation, R\S\T\I\N\ should be tied to Logic 1. Register values (See Datasheet)", 11 DGND (power) "Digital Ground Pin.", 12 DVCC (power) "Digital Supply Pin. Voltage ranges from 2.7 V to 5.25 V.", 13 AVDD (power) "Positive Analog Supply Pins. Voltage ranges from 11.4 V to 16.5 V.", 14 PGND (power) "Ground Reference Point for Analog Circuitry.", 15 AVSS (power) "Negative Analog Supply Pins. Voltage ranges from -11.4 V to -16.5 V.", 16 ISCC "This pin is used in association with an optional external resistor to AGND to program the short-circuit current of the output amplifiers. Refer to the Design Features section for more information.", 17 AGNDD (power) "Ground Reference Pin for DAC D Output Amplifier.", 18 VOUTD (out) "Analog Output Voltage of DAC D. Buffered output with a nominal full-scale output range of +/-10 V. The output amplifier is capable of directly driving a 10 kohm, 200 pF load.", 19 VOUTC (out) "Analog Output Voltage of DAC C. Buffered output with a nominal full-scale output range of +/-10 V. The output amplifier is capable of directly driving a 10 kohm, 200 pF load.", 20 AGNDC (power) "Ground Reference Pin for DAC C Output Amplifier.", 21 AGNDB (power) "Ground Reference Pin for DAC B Output Amplifier.", 22 VOUTB (out) "Analog Output Voltage of DAC B. Buffered output with a nominal full-scale output range of +/-10 V. The output amplifier is capable of directly driving a 10 kohm, 200 pF load.", 23 VOUTA (out) "Analog Output Voltage of DAC A. Buffered output with a nominal full-scale output range of +/-10 V. The output amplifier is capable of directly driving a 10 kohm, 200 pF load.", 24 AGNDA (power) "Ground Reference Pin for DAC A Output Amplifier.", 25 REFAB (in) "External Reference Voltage Input for Channel A and Channel B. The reference input range is 1 V to 7 V, and it programs the full-scale output voltage. VREFIN = 5 V for specified performance.", 26 REFCD (in) "External Reference Voltage Input for Channel C and Channel D. The reference input range is 1 V to 7 V, and it programs the full-scale output voltage. VREFIN = 5 V for specified performance.", 27 REFOUT (out) "Reference Output. This is the reference output from the internal voltage reference. The internal reference is 5 V +/- 3 mV at 25 degC, with a reference temperature coefficient of 10 ppm/degC.", 28 REFGND (power) "Reference Ground Return for the Reference Generator and Buffers.", 29 TEMP (out) "This pin provides an output voltage proportional to temperature. The output voltage is 1.47 V typical at 25 degC die temperature; variation with temperature is 5 mV/degC.", 30 AVSS (power) "Negative Analog Supply Pins. Voltage ranges from -11.4 V to -16.5 V.", 31 AVDD (power) "Positive Analog Supply Pins. Voltage ranges from 11.4 V to 16.5 V.", 32 BIN/~{2SCOMP} (in) "This pin determines the DAC coding. This pin should be hardwired to either DVCC or DGND. When hardwired to DVCC, input coding is offset binary (see Table 7). When hardwired to DGND, input coding is twos complement (see Table (See Datasheet)"